# Altium footprint library PCB_Lib.PcbLib: 286 footprints (part 12 of 18)
Each footprint in its own frame and in the unit in brackets; x right, y up, seen from the top. Pads: shape width x height; smd on the part's side, far side on the other; paste and mask are expansions set on the pad; w line width, h text height; cw(c..) or ccw(c..) is an arc to the next point about the centre after c.
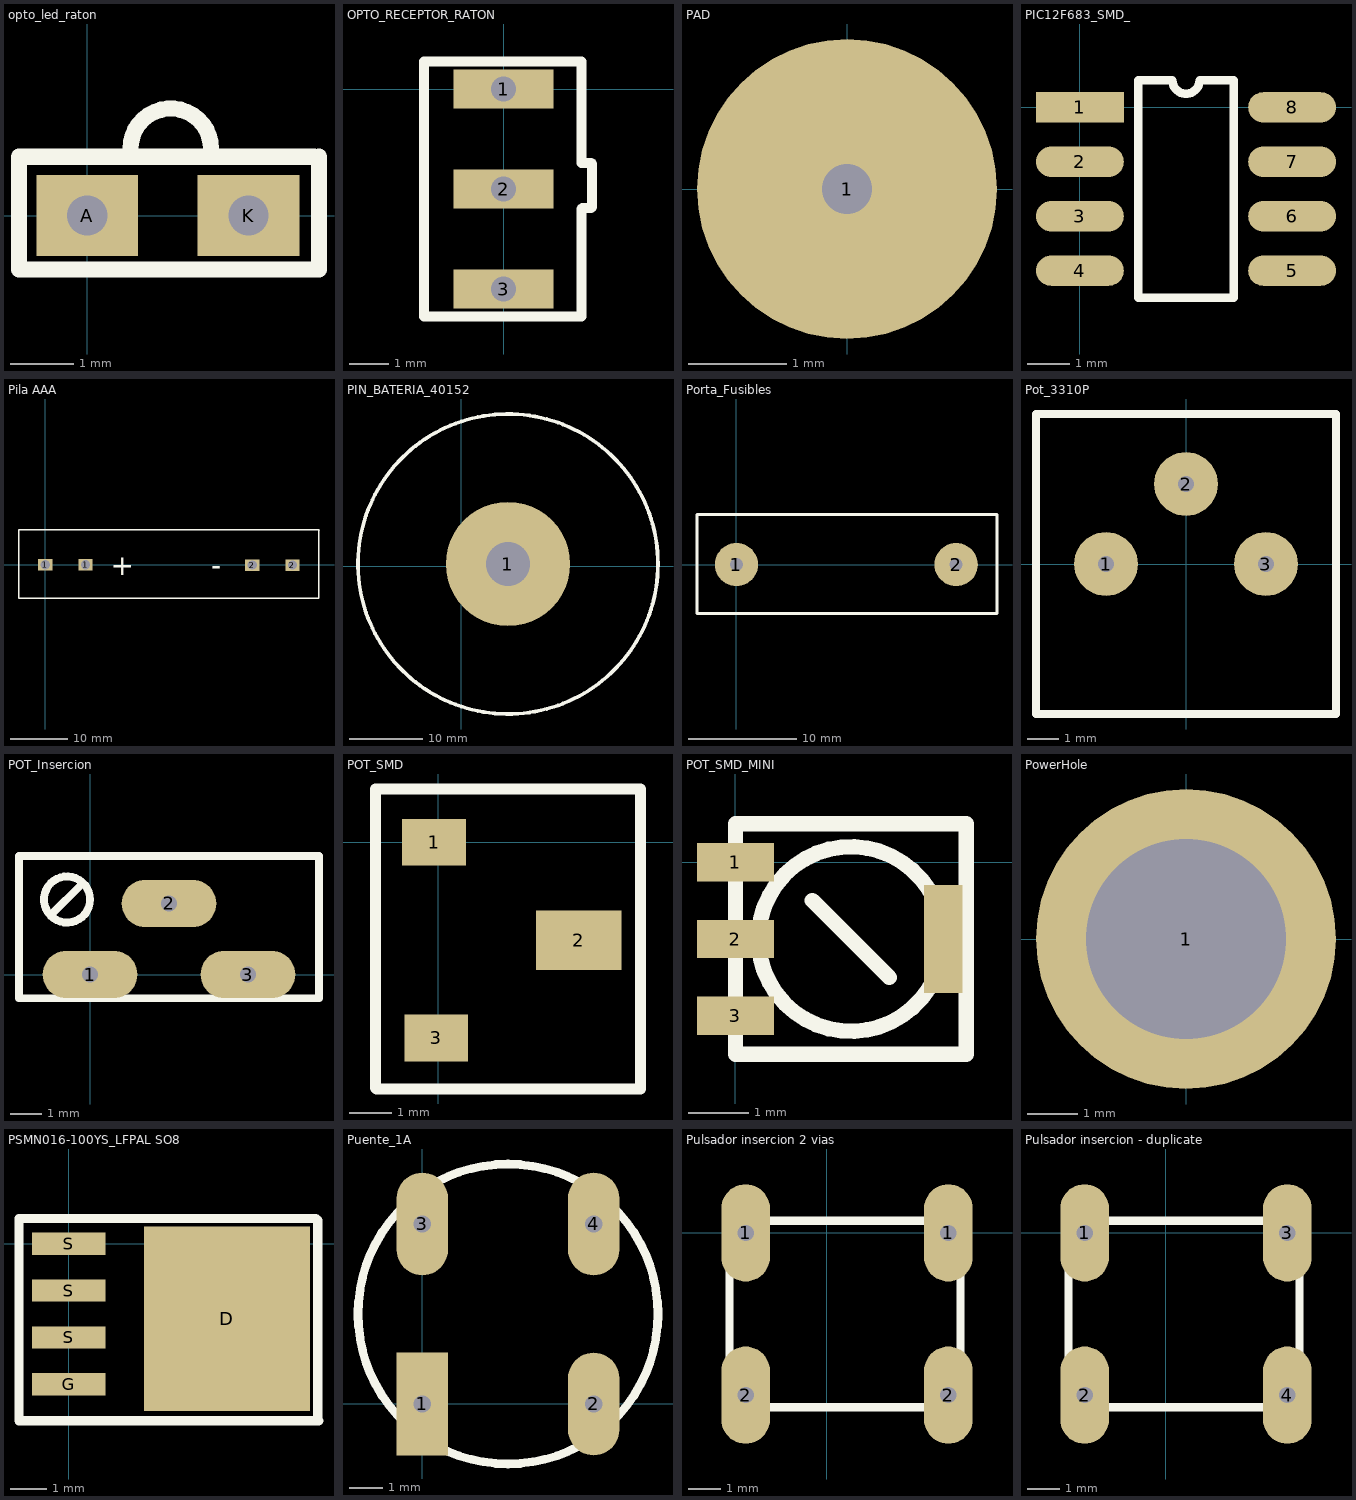
[diagram p11: the footprints below, top view; thin cyan lines are the x and y axes]

## opto_led_raton [mm]
pads (2):
  rect 1.6x1.27 hole 0.635: A(0,0) K(2.54,0)
Top Overlay:
  lines w0.254: 0.68,1.05 cw(c1.315,1.05) 1.95,1.05 ; -1.075,0.925 3.575,0.925 -1.075,0.925 ; -1.075,0.925 -1.075,-0.85 3.65,-0.85 ; 3.65,-0.85 3.65,0.925 3.65,-0.85

## OPTO_RECEPTOR_RATON [mm]
pads (3):
  rect 2.54x1 hole 0.635: 1(0,0) 2(0,-2.54) 3(0,-5.08)
Top Overlay:
  lines w0.254: 1.975,-3.05 2,-3.025 ; 1.975,-3.05 2,-3.025 ; 1.975,-3.05 1.975,-5.775 -2.025,-5.775 -2.025,0.7 1.975,0.7 1.975,-1.875 2.225,-1.875 2.25,-1.9 2.25,-3 2.225,-3.025 2,-3.025

## PAD [mil] "Simplemente un PAD"
pads (1):
  round 120 hole 20: 1(0,0)

## PIC12F683_SMD_ [mm]
pads (8):
  rect 2.05x0.71 smd: 1(0,0)
  oval 2.05x0.71 smd: 2(0,-1.27) 3(0,-2.54) 4(0,-3.81) 5(4.95,-3.81) 6(4.95,-2.54) 7(4.95,-1.27) 8(4.95,0)
Top Overlay:
  lines w0.2: 1.36,-4.445 3.59,-4.445 3.59,0.635 2.792,0.635 cw(c2.475,0.635) 2.157,0.635 1.36,0.635 1.36,-4.445

## Pila AAA [mm]
pads (4):
  rect 2.5x2 hole 1.62: 1(0,0) 1(7,0) 2(35.925,-0.05) 2(42.925,-0.05)
Top Overlay:
  lines w0.254: 47.45,-5.8 47.475,-5.775 ; 47.45,-5.8 -4.55,-5.8 -4.55,0.075 -4.55,6.075 47.525,6.075 47.475,6.025 47.475,-0.125 47.475,-5.775 ; 47.45,-5.8 47.475,-5.775
  text "+" at 11.35,-1.775 h3.52
  text "-" at 28.85,-1.775 h3.52
3D body "CLIP AAA.STEP": height 17.85, standoff -2.86, extent 35.643,-7.875 45.157,7.885
3D body "CLIP AAA.STEP": height 17.85, standoff -2.86, extent -2.257,-8.15 7.257,7.61
3D body "User Library-AAA Battery-2.STEP": height 15.28, standoff 5.03, extent -0.475,-5.075 43.875,5.175

## PIN_BATERIA_40152 [mm]
pads (1):
  round 17 hole 6: 1(6.375,0.305)
Top Overlay:
  circle w0.5: c6.375,0.305 r20.5

## Porta_Fusibles [mm]
pads (2):
  round 4 hole 1.2: 1(0,0) 2(20.32,0)
Top Overlay:
  lines w0.305: -3.65,-4.525 -3.65,4.625 24.1,4.625 24.1,-4.525 -3.65,-4.525

## Pot_3310P [mil] "Resistencia Variable Rectangular"
pads (3):
  round 80 hole 20: 1(-100,0) 2(0,100) 3(100,0)
Top Overlay:
  lines w10: -187.5,-187.5 -187.5,187.5 187.5,187.5 187.5,-187.5 -187.5,-187.5

## POT_Insercion [mil] "Resistencia Variable Rectangular"
pads (3):
  oval 120x60 hole 20: 1(0,0) 2(100,90) 3(200,0)
Top Overlay:
  circle w10: c-29.16,95 r29.16
  lines w10: -50,75 -10,115 ; -90,-30 -90,150 290,150 290,-30 -90,-30

## POT_SMD [mm]
pads (3):
  rect 1.5x1.1 smd: 1(-0.1,0) 3(-0.05,-4.6)
  rect 2x1.4 smd: 2(3.3,-2.3)
Top Overlay:
  lines w0.254: -1.075,-5.8 4.75,-5.8 4.75,1.25 -1.475,1.25 -1.475,-5.775 -1.45,-5.8 -0.875,-5.8

## POT_SMD_MINI [mil]
pads (4):
  rect 50x25 smd: 1(0,0) 2(0,-50) 3(0,-100)
  rect 25x70 smd: ""(135,-50)
Top Overlay:
  circle w10: c75,-50 r60
  lines w10: 50,-25 100,-75 ; 0,-125 150,-125 150,25 0,25 0,-125

## PowerHole [mm]
pads (1):
  round 6 hole 4: 1(0,0)

## PSMN016-100YS_LFPAL SO8 [mm]
pads (5):
  rect 4.5x5 smd: D(4.293,-2.032)
  rect 2x0.6 smd: G(0,-3.81) S(0,-2.54) S(0,-1.27) S(0,0)
Top Layer:
  lines w0.254: 6.172,-4.039 6.198,-4.064
Top Overlay:
  lines w0.254: -1.346,-4.801 -1.346,0.686 6.706,0.686 6.756,0.635 6.756,-4.775 6.782,-4.801 -1.346,-4.801

## Puente_1A [mil]
height 100
pads (4):
  rect 60x120 hole 20: 1(0,0)
  oval 60x120 hole 20: 2(200,0) 3(0,210) 4(200,210)
Top Overlay:
  circle w10: c100,105 r175

## Pulsador insercion 2 vias [mil]
height 100
pads (4):
  oval 60x120 hole 20: 1(-100,0) 1(150,0) 2(-100,-200) 2(150,-200)
Top Overlay:
  lines w10: -120,-215 -120,15 165,15 165,-215 -120,-215

## Pulsador insercion - duplicate [mil]
height 100
pads (4):
  oval 60x120 hole 20: 1(-100,0) 2(-100,-200) 3(150,0) 4(150,-200)
Top Overlay:
  lines w10: -120,-215 165,-215 165,15 -120,15 -120,-215